# EAGLE library part SUP500F8 (library mb_gps)
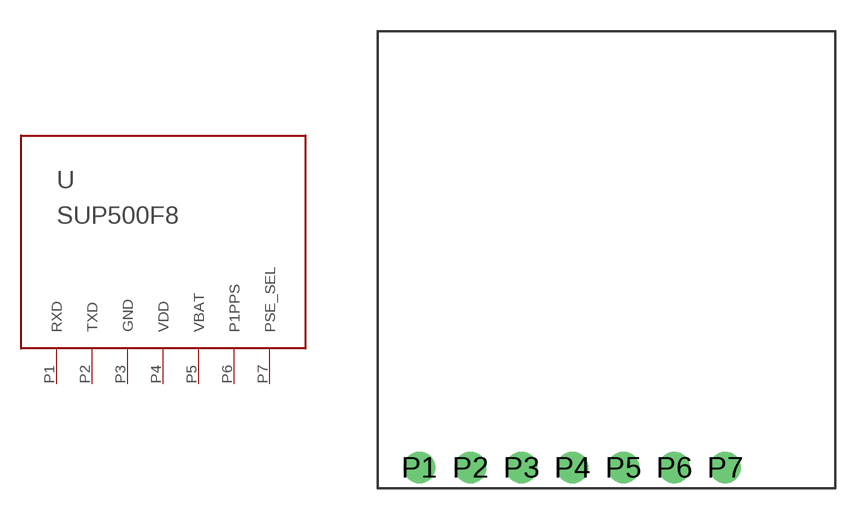
[diagram p1: symbol with the pads of SUP500F8; footprint SUP500F8]

Designator prefix -

## SUP500F8  [SUP500F8]
P1  RXD
P2  TXD
P3  GND
P4  VDD
P5  VBAT
P6  P1PPS
P7  PSE_SEL

## Footprint SUP500F8 (pad centres in mm)
drill 1: P1 2.01,1; P2 4.46,1; P3 6.91,1; P4 9.36,1; P5 11.81,1; P6 14.26,1; P7 16.71,1